# EAGLE library part AS5048A (library ic-ams)
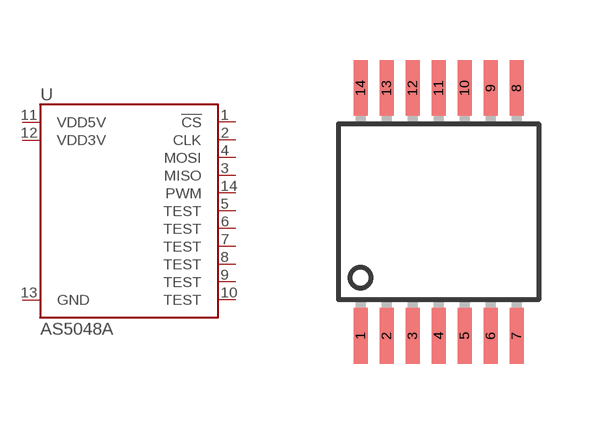
[diagram p3: symbol with the pads of TSSOP14; footprint TSSOP14]

Designator prefix U

## AS5048A  [TSSOP14]
1  !CS
2  CLK
3  MISO
4  MOSI
5  TEST
6  TEST
7  TEST
8  TEST
9  TEST
10  TEST
11  VDD5V
12  VDD3V
13  GND
14  PWM

## Footprint TSSOP14 (pad centres in mm)
smd 0.35 x 1.4: 1 -1.95,-3.1; 2 -1.3,-3.1; 3 -0.65,-3.1; 4 0,-3.1; 5 0.65,-3.1; 6 1.3,-3.1; 7 1.95,-3.1; 8 1.95,3.1; 9 1.3,3.1; 10 0.65,3.1; 11 0,3.1; 12 -0.65,3.1; 13 -1.3,3.1; 14 -1.95,3.1